# Altium schematic symbol library SCH_components.SchLib: 2 symbols
Pins are listed as number, name and electrical type; pins without a type are passive.

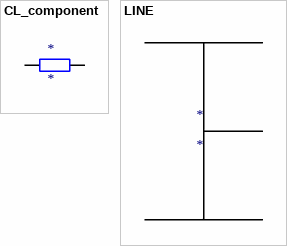
[diagram p0: symbols CL_component to LINE]

## CL_component
designator *
footprint RESISTOR
pins: 1, 2

## LINE
designator *
footprint LINE
pins: 1, 1, 1, 1, 1